# EAGLE library part TRANSFORMER_LAN_POE_SINGLE_PORT (library !GPLIB_PASSIVE)
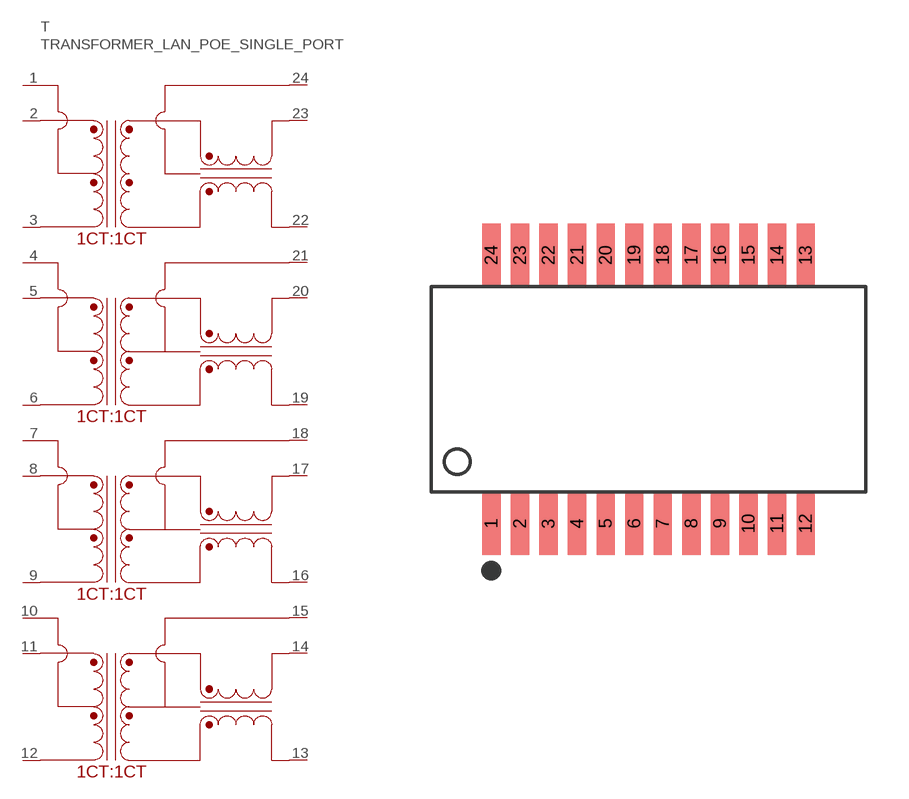
[diagram p6: symbol with the pads of SMD-24P_15.1X10MM; footprint SMD-24P_15.1X10MM]

Designator prefix T

## TRANSFORMER_LAN_POE_SINGLE_PORT_G2415S  [SMD-24P_15.1X10MM]
1  TCT1  pas
2  TD1+  pas
3  TD1-  pas
4  TCT2  pas
5  TD2+  pas
6  TD2-  pas
7  TCT3  pas
8  TD3+  pas
9  TD3-  pas
10  TCT4  pas
11  TD4+  pas
12  TD4-  pas
13  MX4-  pas
14  MX4+  pas
15  MCT4  pas
16  MX3-  pas
17  MX3+  pas
18  MCT3  pas
19  MX2-  pas
20  MX2+  pas
21  MCT2  pas
22  MX1-  pas
23  MX1+  pas
24  MCT1  pas

## Footprint SMD-24P_15.1X10MM (pad centres in mm)
smd 0.64 x 2.2: 1 -5.5,-4.7; 2 -4.5,-4.7; 3 -3.5,-4.7; 4 -2.5,-4.7; 5 -1.5,-4.7; 6 -0.5,-4.7; 7 0.5,-4.7; 8 1.5,-4.7; 9 2.5,-4.7; 10 3.5,-4.7; 11 4.5,-4.7; 12 5.5,-4.7; 13 5.5,4.7; 14 4.5,4.7; 15 3.5,4.7; 16 2.5,4.7; 17 1.5,4.7; 18 0.5,4.7; 19 -0.5,4.7; 20 -1.5,4.7; 21 -2.5,4.7; 22 -3.5,4.7; 23 -4.5,4.7; 24 -5.5,4.7